# Altium schematic symbol library WirelessStrainGauge.SchLib: 6 symbols
Pins are listed as number, name and electrical type; pins without a type are passive.

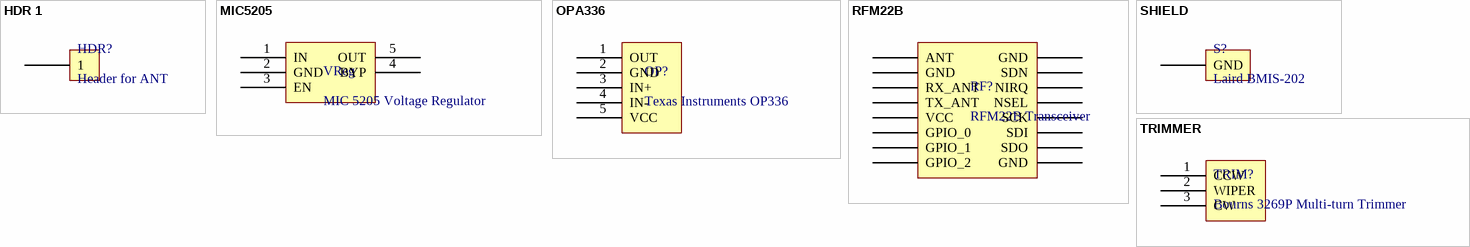
[diagram p0: symbols HDR 1 to TRIMMER]

## HDR 1
designator HDR?, comment Header for ANT
footprint HDR 1 (Header for ANT)
pins: 1

## MIC5205
designator VReg, comment MIC 5205 Voltage Regulator
footprint MIC5205 (MIC5205 3.3V Voltage Regulator)
pins: 1 IN, 2 GND, 3 EN, 4 BYP, 5 OUT

## OPA336
designator OP?, comment Texas Instruments OP336
footprint OPA336 (Texas Instruments Operational Amplifier)
pins: 1 OUT, 2 GND, 3 IN+, 4 IN-, 5 VCC

## RFM22B
designator RF?, comment RFM22B Transceiver
footprint RFM22B
pins: 1 GPIO_2, 2 GPIO_1, 3 GPIO_0, 4 VCC, 5 TX_ANT, 6 RX_ANT, 7 GND, 8 ANT, 9 GND, 10 SDO, 11 SDI, 12 SCK, 13 NSEL, 14 NIRQ, 15 SDN, 16 GND

## SHIELD
designator S?, comment Laird BMIS-202
footprint Shield (Laird Technologies BMI-S-202-F)
pins: 0 GND

## TRIMMER
designator TRIM?, comment Bourns 3269P Multi-turn Trimmer
footprint TRIMMER (Bourns 3269P Multi-turn Trimmer)
pins: 1 CCW, 2 WIPER, 3 CW